# Altium footprint library RF_Filters.PcbLib: 16 footprints
Each footprint in its own frame and in the unit in brackets; x right, y up, seen from the top. Pads: shape width x height; smd on the part's side, far side on the other; paste and mask are expansions set on the pad; w line width, h text height; cw(c..) or ccw(c..) is an arc to the next point about the centre after c.
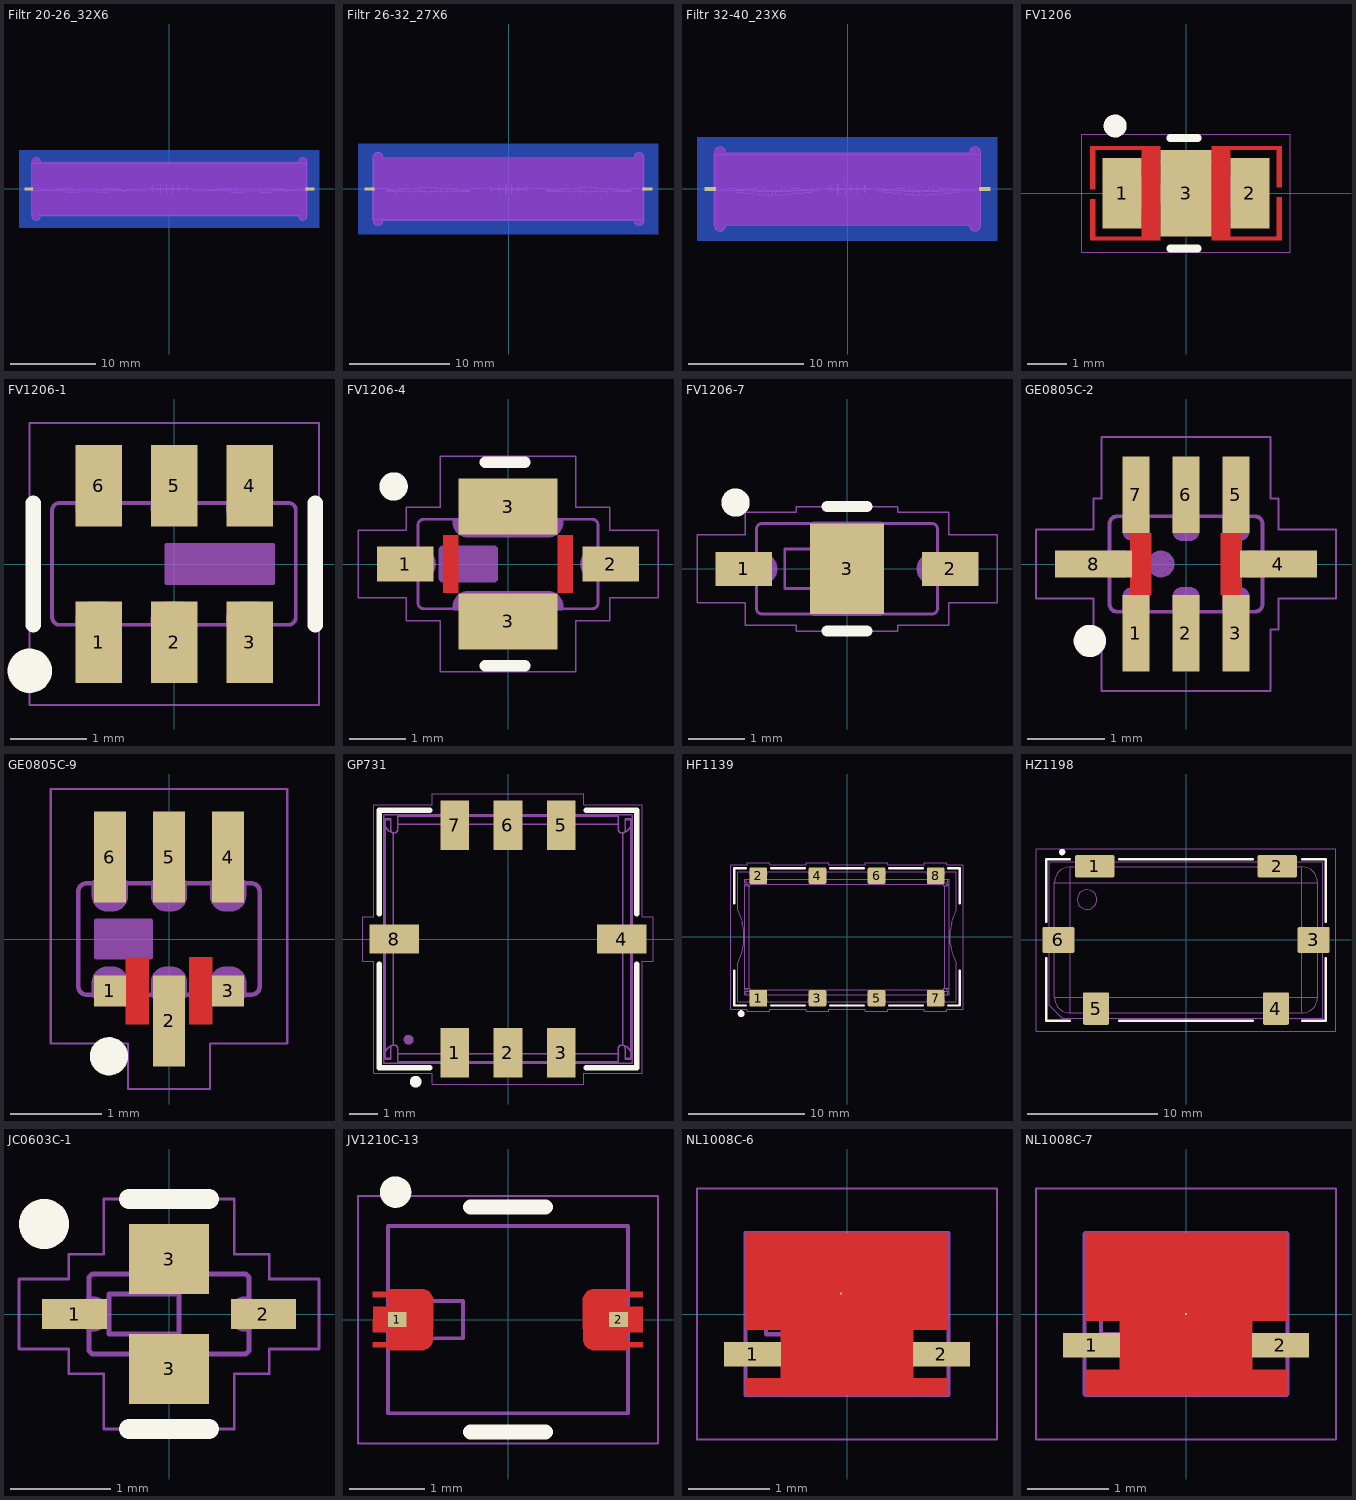
[diagram p0: the footprints below, top view; thin cyan lines are the x and y axes]

## Filtr 20-26_32X6 [mm]
pads (2):
  rect 1x0.34 smd paste-1 mask+0: 1(-16.4,0) 2(16.4,0)
Bottom Layer:
  region: -17.55,4.5 -17.55,-4.5 17.45,-4.5 17.45,4.5
Keep-Out Layer:
  board cut-out: -16.05,-3.15 -16.05,-3.249 -15.974,-3.433 -15.833,-3.574 -15.65,-3.65 -15.451,-3.65 -15.267,-3.574 -15.126,-3.433 -15.05,-3.249 -15.05,-3.15 15.05,-3.15 15.05,-3.249 15.126,-3.433 15.267,-3.574 15.451,-3.65 15.649,-3.65 15.833,-3.574 15.974,-3.433 16.05,-3.249 16.05,-3.15 16.05,3.15 16.05,3.249 15.974,3.433 15.833,3.574 15.649,3.65 15.451,3.65 15.267,3.574 15.126,3.433 15.05,3.249 15.05,3.15 -15.05,3.15 -15.05,3.249 -15.126,3.433 -15.267,3.574 -15.451,3.65 -15.649,3.65 -15.833,3.574 -15.974,3.433 -16.05,3.249 -16.05,3.15
Top Assembly:
  drawing of 217 lines, arcs and shapes, not listed
  text ".Designator" at -6.763,3.821 h3
  text "20-26" at -15.687,-2.438 h0.2
Bottom Assembly:
  lines w0.05: -16.05,-3.15 ccw(c-15.55,-3.15) -15.05,-3.15 15.05,-3.15 ccw(c15.55,-3.15) 16.05,-3.15 16.05,3.15 ccw(c15.55,3.15) 15.05,3.15 -15.05,3.15 ccw(c-15.55,3.15) -16.05,3.15 -16.05,-3.15
3D body "FILTER 20-26-1.x_t": height 0, standoff -0.52, extent -16,-3 16,3

## Filtr 26-32_27X6 [mm]
pads (2):
  rect 1x0.34 smd paste-1 mask+0: 1(-13.9,0) 2(13.9,0)
Bottom Layer:
  region: -15.05,4.5 -15.05,-4.5 14.95,-4.5 14.95,4.5
Keep-Out Layer:
  board cut-out: -13.55,-3.15 -13.55,-3.249 -13.474,-3.433 -13.333,-3.574 -13.15,-3.65 -12.951,-3.65 -12.767,-3.574 -12.626,-3.433 -12.55,-3.249 -12.55,-3.15 12.55,-3.15 12.55,-3.249 12.626,-3.433 12.767,-3.574 12.951,-3.65 13.149,-3.65 13.333,-3.574 13.474,-3.433 13.55,-3.249 13.55,-3.15 13.55,3.15 13.55,3.249 13.474,3.433 13.333,3.574 13.149,3.65 12.951,3.65 12.767,3.574 12.626,3.433 12.55,3.249 12.55,3.15 -12.55,3.15 -12.55,3.249 -12.626,3.433 -12.767,3.574 -12.951,3.65 -13.149,3.65 -13.333,3.574 -13.474,3.433 -13.55,3.249 -13.55,3.15
Top Assembly:
  drawing of 156 lines, arcs and shapes, not listed
  text ".Designator" at -6.763,3.821 h3
  text "26-32" at -12.392,-2.025 h0.2
Bottom Assembly:
  lines w0.05: -13.55,-3.15 ccw(c-13.05,-3.15) -12.55,-3.15 12.55,-3.15 ccw(c13.05,-3.15) 13.55,-3.15 13.55,3.15 ccw(c13.05,3.15) 12.55,3.15 -12.55,3.15 ccw(c-13.05,3.15) -13.55,3.15 -13.55,-3.15
3D body "FILTER 26-32-1.x_t": height 0, standoff -0.52, extent -13.5,-3 13.5,3

## Filtr 32-40_23X6 [mm]
pads (2):
  rect 1x0.34 smd paste-1 mask+0: 1(-11.9,0) 2(11.9,0)
Bottom Layer:
  region: -13.05,4.5 -13.05,-4.5 12.95,-4.5 12.95,4.5
Keep-Out Layer:
  board cut-out: -11.55,-3.15 -11.55,-3.249 -11.474,-3.433 -11.333,-3.574 -11.15,-3.65 -10.951,-3.65 -10.767,-3.574 -10.626,-3.433 -10.55,-3.249 -10.55,-3.15 10.55,-3.15 10.55,-3.249 10.626,-3.433 10.767,-3.574 10.951,-3.65 11.149,-3.65 11.333,-3.574 11.474,-3.433 11.55,-3.249 11.55,-3.15 11.55,3.15 11.55,3.249 11.474,3.433 11.333,3.574 11.149,3.65 10.951,3.65 10.767,3.574 10.626,3.433 10.55,3.249 10.55,3.15 -10.55,3.15 -10.55,3.249 -10.626,3.433 -10.767,3.574 -10.951,3.65 -11.149,3.65 -11.333,3.574 -11.474,3.433 -11.55,3.249 -11.55,3.15
Top Assembly:
  drawing of 156 lines, arcs and shapes, not listed
  text ".Designator" at -6.763,3.821 h3
  text "32-40" at -10.721,-2.338 h0.2
Bottom Assembly:
  lines w0.05: -11.55,-3.15 ccw(c-11.05,-3.15) -10.55,-3.15 10.55,-3.15 ccw(c11.05,-3.15) 11.55,-3.15 11.55,3.15 ccw(c11.05,3.15) 10.55,3.15 -10.55,3.15 ccw(c-11.05,3.15) -11.55,3.15 -11.55,-3.15
3D body "FILTER 32-40-3.x_t": height 0, standoff -0.52, extent -11.5,-3 11.509,3

## FV1206 [mm] "Mini-Circuits FV1206 Case Style"
height 0.94
pads (3):
  rect 1x1.8 smd paste-2 mask+0.08: 1(-1.625,0) 2(1.625,0)
  rect 1.3x2.2 smd paste-2: 3(0,0)
Top Layer:
  pour cut-out: -1.125,1.1 -0.65,1.1 -0.65,-1.1 -1.125,-1.1
  pour cut-out: 1.125,1.1 0.65,1.1 0.65,-1.1 1.125,-1.1
  pour cut-out: -0.65,1.1 -2.43,1.1 -2.43,1.2 -0.65,1.2
  pour cut-out: -0.65,-1.1 -2.43,-1.1 -2.43,-1.2 -0.65,-1.2
  pour cut-out: -2.43,-1.2 -2.3,-1.2 -2.3,-0.15 -2.43,-0.15
  pour cut-out: 0.65,1.1 2.43,1.1 2.43,1.2 0.65,1.2
  pour cut-out: 2.43,1.2 2.3,1.2 2.3,0.15 2.43,0.15
  pour cut-out: 0.65,-1.1 2.43,-1.1 2.43,-1.2 0.65,-1.2
  pour cut-out: 2.43,-1.2 2.3,-1.2 2.3,-0.1 2.43,-0.1
  pour cut-out: -2.43,1.2 -2.3,1.2 -2.3,0.1 -2.43,0.1
Top Overlay:
  circle w0.3: c-1.8,1.71 r0.141
  lines w0.2: -0.4,-1.4 0.3,-1.4 ; -0.4,1.4 0.3,1.4
Top Paste:
  rectangle: -0.55,0.3 0.55,1
  rectangle: -0.55,-1 0.55,-0.3
  region: -1.325,0.1 -1.325,0.775 -1.925,0.775 -1.925,0.1
  region: -1.325,-0.775 -1.325,-0.1 -1.925,-0.1 -1.925,-0.775
  region: 1.925,0.1 1.925,0.775 1.325,0.775 1.325,0.1
  region: 1.925,-0.775 1.925,-0.1 1.325,-0.1 1.325,-0.775
Top Courtyard:
  lines w0.025: -2.65,-1.5 2.65,-1.5 2.65,1.5 -2.65,1.5 -2.65,-1.5
Top Assembly:
  lines w0.05: -1.55,-0.775 -1.55,0.775 ; -1.45,-0.8 -1.45,0.8 ; -1.4,-0.8 -1.4,0.8 ; -1.35,-0.775 -1.35,0.775 ; -1.348,-0.798 ccw(c-2.451,0) -1.349,0.798 ; -1.308,-0.799 -0.405,-0.799 ; -1.308,0.799 -0.405,0.799 ; -1.3,-0.7 -1.3,0.72 ; -1.25,-0.8 -1.5,-0.8 ; -1.25,-0.625 -1.25,0.622 ; -1.25,0.8 -1.5,0.8 ; -1.2,-0.525 -1.2,0.529 ; -1.15,-0.375 -1.15,0.391 ; -1.1,-0.132 -1.1,0.157 ; -0.84,-0.25 -0.84,0.25 ; -0.79,-0.25 -0.79,0.25 ; -0.74,-0.25 -0.74,0.25 ; -0.69,-0.25 -0.69,0.25 ; -0.64,-0.25 -0.64,0.25 ; -0.59,-0.25 -0.59,0.25 ; -0.54,-0.25 -0.54,0.25 ; -0.49,-0.25 -0.49,0.25 ; -0.44,-0.25 -0.44,0.25 ; -0.405,-0.8 0.405,-0.8 ; -0.405,0.8 0.405,0.8 ; -0.403,-0.747 cw(c0,-1.099) 0.403,-0.747 ; -0.403,0.747 ccw(c0,1.099) 0.403,0.747 ; -0.401,-0.8 -0.401,-0.749 ; -0.401,0.749 -0.401,0.8 ; -0.39,-0.25 -0.39,0.25 ; -0.35,-0.8 -0.35,-0.7 ; -0.35,0.7 -0.35,0.8 ; -0.34,-0.25 -0.34,0.25 ; -0.3,-0.8 -0.3,-0.66 ; -0.3,0.66 -0.3,0.8 ; -0.29,-0.25 -0.29,0.25 ; -0.25,-0.8 -0.25,-0.63 ; -0.25,0.63 -0.25,0.8 ; -0.24,-0.25 -0.24,0.25 ; -0.2,-0.8 -0.2,-0.61 ; -0.2,0.61 -0.2,0.8 ; -0.19,-0.25 -0.19,0.25 ; -0.15,-0.8 -0.15,-0.59 ; -0.15,0.59 -0.15,0.8 ; -0.14,-0.25 -0.14,0.25 ; -0.1,-0.8 -0.1,-0.58 ; -0.1,0.58 -0.1,0.8 ; -0.09,-0.25 -0.09,0.25 ; -0.05,-0.8 -0.05,-0.57 ; -0.05,0.57 -0.05,0.8 ; -0.04,-0.25 -0.04,0.25 ; 0,-0.8 0,-0.57 ; 0,0.57 0,0.8 ; 0.01,-0.25 0.01,0.25 ; 0.05,-0.8 0.05,-0.57 ; 0.05,0.57 0.05,0.8 ; 0.06,-0.25 0.06,0.25 ; 0.1,-0.8 0.1,-0.58 ; 0.1,0.58 0.1,0.8 ; 0.11,-0.25 0.11,0.25 ; 0.15,-0.8 0.15,-0.59 ; 0.15,0.59 0.15,0.8 ; 0.16,-0.25 0.16,0.25 ; 0.2,-0.8 0.2,-0.61 ; 0.2,0.61 0.2,0.8 ; 0.21,-0.25 0.21,0.25 ; 0.25,-0.8 0.25,-0.63 ; 0.25,0.63 0.25,0.8 ; 0.26,-0.25 0.26,0.25 ; 0.3,-0.8 0.3,-0.66 ; 0.3,0.66 0.3,0.8 ; 0.31,-0.25 0.31,0.25 ; 0.35,-0.8 0.35,-0.7 ; 0.35,0.7 0.35,0.8 ; 0.36,-0.25 0.36,0.25 ; 0.401,-0.8 0.401,-0.749 ; 0.401,0.749 0.401,0.8 ; 0.405,-0.799 1.308,-0.799 ; 0.405,0.799 1.308,0.799 ; 1.1,-0.132 1.1,0.157 ; 1.15,-0.375 1.15,0.391 ; 1.2,-0.525 1.2,0.529 ; 1.25,-0.8 1.5,-0.8 ; 1.25,-0.625 1.25,0.622 ; 1.25,0.8 1.5,0.8 ; 1.3,-0.7 1.3,0.72 ; 1.348,-0.798 cw(c2.451,0) 1.349,0.798 ; 1.35,-0.775 1.35,0.775 ; 1.4,-0.8 1.4,0.8 ; 1.45,-0.8 1.45,0.8 ; 1.55,-0.775 1.55,0.775 ; -1.5,-0.8 cw(c-1.5,-0.7) -1.6,-0.7 -1.6,0.7 cw(c-1.5,0.7) -1.5,0.8 ; -1.5,-0.8 -1.5,0.8 ; 1.5,-0.8 ccw(c1.5,-0.7) 1.6,-0.7 1.6,0.7 ccw(c1.5,0.7) 1.5,0.8 ; 1.5,-0.8 1.5,0.8 ; -0.89,-0.25 0.41,-0.25 0.41,0.25 -0.89,0.25 -0.89,-0.25
  text ".Designator" at -2.704,1.129 h1.2
3D body "FV1206.x_t": height 0.94, standoff 0, extent -1.6,-0.8 1.6,0.8

## FV1206-1 [mm] "Mini-Circuits FV1206-1 Case Style"
height 0.89
pads (6):
  rect 0.61x1.07 smd mask+0.05: 1(-0.99,-1.025) 2(0,-1.025) 3(0.99,-1.025) 4(0.99,1.025) 5(0,1.025) 6(-0.99,1.025)
Top Overlay:
  circle w0.3: c-1.896,-1.401 r0.141
  lines w0.2: -1.85,-0.8 -1.85,0.8 ; 1.85,-0.8 1.85,0.8
Top Courtyard:
  lines w0.025: -1.9,-1.85 1.9,-1.85 1.9,1.85 -1.9,1.85 -1.9,-1.85
Top Assembly:
  drawing of 201 lines, arcs and shapes, not listed
  text ".Designator" at -2.704,1.129 h1.2
3D body "FV1206-1.x_t": height 0.9, standoff -0.01, extent -1.6,-0.81 1.6,0.81

## FV1206-4 [mm] "Mini-Circuits FV1206-4 Case Style"
height 0.94
pads (4):
  rect 0.99x0.61 smd: 1(-1.815,0) 2(1.815,0)
  rect 1.75x0.99 smd paste-2: 3(0,-1.015) 3(0,1.015)
Top Layer:
  pour cut-out: -0.875,0.505 -0.875,-0.005 -1.14,-0.005 -1.14,0.505
  pour cut-out: -0.875,-0.505 -0.875,0.005 -1.14,0.005 -1.14,-0.505
  pour cut-out: 0.875,0.505 0.875,-0.005 1.14,-0.005 1.14,0.505
  pour cut-out: 0.875,-0.505 0.875,0.005 1.14,0.005 1.14,-0.505
Top Overlay:
  circle w0.3: c-2.02,1.37 r0.1
  lines w0.2: -0.4,-1.8 0.3,-1.8 ; -0.4,1.8 0.3,1.8
Top Paste:
  region: -0.1,1.325 -0.775,1.325 -0.775,0.625 -0.1,0.625
  rectangle: 0.1,0.625 0.775,1.325
  region: -0.1,-0.625 -0.775,-0.625 -0.775,-1.325 -0.1,-1.325
  rectangle: 0.1,-1.325 0.775,-0.625
Top Courtyard:
  lines w0.025: -2.65,-0.6 -1.8,-0.6 -1.8,-1 -1.2,-1 -1.2,-1.9 1.2,-1.9 1.2,-1 1.8,-1 1.8,-0.6 2.65,-0.6 2.65,0.6 1.8,0.6 1.8,1 1.2,1 1.2,1.9 -1.2,1.9 -1.2,1 -1.8,1 -1.8,0.6 -2.65,0.6 -2.65,-0.6
Top Assembly:
  drawing of 347 lines, arcs and shapes, not listed
  text ".Designator" at -2.704,1.129 h1.2
3D body "FV1206-4.x_t": height 0.94, standoff 0, extent -1.6,-0.8 1.6,0.8

## FV1206-7 [mm] "Mini-Circuits FV1206-7 Case Style"
height 1.3
pads (3):
  rect 1x0.6 smd: 1(-1.825,0) 2(1.825,0)
  rect 1.3x1.6 smd paste-2: 3(0,0)
Top Overlay:
  circle w0.3: c-1.97,1.17 r0.1
  lines w0.2: -0.35,-1.1 0.35,-1.1 ; -0.35,1.1 0.35,1.1
Top Paste:
  region: -0.15,-0.15 -0.65,-0.15 -0.65,-0.8 -0.15,-0.8
  region: -0.15,0.8 -0.65,0.8 -0.65,0.15 -0.15,0.15
  region: 0.65,-0.15 0.15,-0.15 0.15,-0.8 0.65,-0.8
  region: 0.65,0.8 0.15,0.8 0.15,0.15 0.65,0.15
Top Courtyard:
  lines w0.025: -2.65,-0.6 -2.65,0.6 -1.8,0.6 -1.8,1 -0.9,1 -0.9,1.1 0.9,1.1 0.9,1 1.8,1 1.8,0.6 2.65,0.6 2.65,-0.6 1.8,-0.6 1.8,-1 0.9,-1 0.9,-1.1 -0.9,-1.1 -0.9,-1 -1.8,-1 -1.8,-0.6 -2.65,-0.6
Top Assembly:
  lines w0.05: -1.6,-0.25 -1.6,-0.7 ccw(c-1.5,-0.7) -1.5,-0.8 1.5,-0.8 ccw(c1.5,-0.7) 1.6,-0.7 1.6,-0.25 ; -1.6,0.25 -1.6,0.7 cw(c-1.5,0.7) -1.5,0.8 1.5,0.8 cw(c1.5,0.7) 1.6,0.7 1.6,0.25 ; -1.56,-0.25 -1.56,0.25 ; -1.51,-0.25 -1.51,0.25 ; -1.46,-0.225 -1.46,0.225 ; -1.41,-0.225 -1.41,0.225 ; -1.36,-0.2 -1.36,0.2 ; -1.31,-0.15 -1.31,0.15 ; -1.26,-0.05 -1.26,0.05 ; -0.6,-0.81 0.6,-0.81 ; -0.6,0.81 0.6,0.81 ; 1.26,-0.05 1.26,0.05 ; 1.31,-0.15 1.31,0.15 ; 1.36,-0.2 1.36,0.2 ; 1.41,-0.225 1.41,0.225 ; 1.46,-0.225 1.46,0.225 ; 1.51,-0.25 1.51,0.25 ; 1.56,-0.25 1.56,0.25 ; -1.61,-0.25 -1.61,0.25 -1.5,0.25 cw(c-1.5,0) -1.5,-0.25 -1.61,-0.25 ; -1.1,-0.35 0.2,-0.35 0.2,0.35 -1.1,0.35 -1.1,-0.35 ; 1.5,-0.25 cw(c1.5,0) 1.5,0.25 1.61,0.25 1.61,-0.25 1.5,-0.25
  text ".Designator" at -2.704,1.129 h1.2
3D body "FV1206-7.x_t": height 1.31, standoff -0.01, extent -1.61,-0.81 1.61,0.81

## GE0805C-2 [mm] "Mini-Circuits GE0805C-2 Case Style"
height 0.95
pads (8):
  rect 0.35x1 smd mask+0.06: 1(-0.65,-0.9) 2(0,-0.9) 3(0.65,-0.9) 5(0.65,0.9) 6(0,0.9) 7(-0.65,0.9)
  rect 1x0.35 smd mask+0.06: 4(1.2,0) 8(-1.2,0)
Top Layer:
  pour cut-out: 0.725,0.4 0.45,0.4 0.45,-0.4 0.725,-0.4
  pour cut-out: -0.725,0.4 -0.45,0.4 -0.45,-0.4 -0.725,-0.4
Top Overlay:
  circle w0.22: c-1.25,-1 r0.1
Top Courtyard:
  lines w0.025: -1.95,-0.45 -1.95,0.45 -1.2,0.45 -1.2,0.85 -1.1,0.85 -1.1,1.65 1.1,1.65 1.1,0.85 1.2,0.85 1.2,0.45 1.95,0.45 1.95,-0.45 1.2,-0.45 1.2,-0.85 1.1,-0.85 1.1,-1.65 -1.1,-1.65 -1.1,-0.85 -1.2,-0.85 -1.2,-0.45 -1.95,-0.45
Top Assembly:
  circle w0.05: c-0.325,0 r0.01
  circle w0.05: c-0.325,0 r0.15
  circle w0.05: c-0.325,0 r0.05
  circle w0.05: c-0.325,0 r0.1
  lines w0.05: -0.995,-0.15 -0.995,-0.52 ccw(c-0.895,-0.52) -0.895,-0.62 -0.8,-0.62 ; -0.995,0.15 -0.995,0.52 cw(c-0.895,0.52) -0.895,0.62 -0.8,0.62 ; -0.95,-0.15 -0.95,0.15 ; -0.9,-0.15 -0.9,0.15 ; -0.85,-0.15 -0.85,0.15 ; -0.8,-0.575 -0.5,-0.575 ; -0.8,-0.525 -0.5,-0.525 ; -0.8,-0.475 -0.5,-0.475 ; -0.8,0.475 -0.5,0.475 ; -0.8,0.525 -0.5,0.525 ; -0.8,0.575 -0.5,0.575 ; -0.775,-0.375 -0.525,-0.375 ; -0.775,0.375 -0.525,0.375 ; -0.75,-0.1 -0.75,0.1 ; -0.5,-0.62 -0.15,-0.62 ; -0.5,0.62 -0.15,0.62 ; -0.15,-0.575 0.15,-0.575 ; -0.15,-0.525 0.15,-0.525 ; -0.15,-0.475 0.15,-0.475 ; -0.15,0.475 0.15,0.475 ; -0.15,0.525 0.15,0.525 ; -0.15,0.575 0.15,0.575 ; -0.125,-0.375 0.125,-0.375 ; -0.125,0.375 0.125,0.375 ; 0.15,-0.62 0.5,-0.62 ; 0.15,0.62 0.5,0.62 ; 0.5,-0.575 0.8,-0.575 ; 0.5,-0.525 0.8,-0.525 ; 0.5,-0.475 0.8,-0.475 ; 0.5,0.475 0.8,0.475 ; 0.5,0.525 0.8,0.525 ; 0.5,0.575 0.8,0.575 ; 0.525,-0.375 0.775,-0.375 ; 0.525,0.375 0.775,0.375 ; 0.75,-0.1 0.75,0.1 ; 0.8,-0.62 0.895,-0.62 ccw(c0.895,-0.52) 0.995,-0.52 0.995,-0.15 ; 0.8,0.62 0.895,0.62 cw(c0.895,0.52) 0.995,0.52 0.995,0.15 ; 0.85,-0.15 0.85,0.15 ; 0.9,-0.15 0.9,0.15 ; 0.95,-0.15 0.95,0.15 ; -0.8,-0.425 cw(c-0.7,-0.425) -0.7,-0.325 -0.6,-0.325 cw(c-0.6,-0.425) -0.5,-0.425 ; -0.8,-0.425 -0.8,-0.625 -0.5,-0.625 -0.5,-0.425 ; -0.8,-0.425 -0.5,-0.425 ; -0.8,-0.15 ccw(c-0.8,-0.05) -0.7,-0.05 -0.7,0.05 ccw(c-0.8,0.05) -0.8,0.15 ; -0.8,-0.15 -1,-0.15 -1,0.15 -0.8,0.15 ; -0.8,-0.15 -0.8,0.15 ; -0.8,0.425 ccw(c-0.7,0.425) -0.7,0.325 -0.6,0.325 ccw(c-0.6,0.425) -0.5,0.425 ; -0.8,0.425 -0.8,0.625 -0.5,0.625 -0.5,0.425 ; -0.8,0.425 -0.5,0.425 ; -0.15,-0.425 cw(c-0.05,-0.425) -0.05,-0.325 0.05,-0.325 cw(c0.05,-0.425) 0.15,-0.425 ; -0.15,-0.425 -0.15,-0.625 0.15,-0.625 0.15,-0.425 ; -0.15,-0.425 0.15,-0.425 ; -0.15,0.425 ccw(c-0.05,0.425) -0.05,0.325 0.05,0.325 ccw(c0.05,0.425) 0.15,0.425 ; -0.15,0.425 -0.15,0.625 0.15,0.625 0.15,0.425 ; -0.15,0.425 0.15,0.425 ; 0.5,-0.425 cw(c0.6,-0.425) 0.6,-0.325 0.7,-0.325 cw(c0.7,-0.425) 0.8,-0.425 ; 0.5,-0.425 0.5,-0.625 0.8,-0.625 0.8,-0.425 ; 0.5,-0.425 0.8,-0.425 ; 0.5,0.425 ccw(c0.6,0.425) 0.6,0.325 0.7,0.325 ccw(c0.7,0.425) 0.8,0.425 ; 0.5,0.425 0.5,0.625 0.8,0.625 0.8,0.425 ; 0.5,0.425 0.8,0.425 ; 0.8,-0.15 cw(c0.8,-0.05) 0.7,-0.05 0.7,0.05 cw(c0.8,0.05) 0.8,0.15 ; 0.8,-0.15 1,-0.15 1,0.15 0.8,0.15 ; 0.8,-0.15 0.8,0.15
  text ".Designator" at -2.704,1.229 h1.2
3D body "GE0805C-2.x_t": height 0.95, standoff 0, extent -1,-0.625 1,0.625

## GE0805C-9 [mm] "Mini-Circuits GE0805C-9 Case Style"
height 0.95
pads (6):
  rect 0.35x0.34 smd mask+0.065: 1(-0.65,-0.57) 3(0.65,-0.57)
  rect 0.35x1 smd mask+0.06: 2(0,-0.9) 4(0.65,0.9) 5(0,0.9) 6(-0.65,0.9)
Top Layer:
  pour cut-out: -0.475,-0.2 -0.22,-0.2 -0.22,-0.94 -0.475,-0.94
  pour cut-out: 0.475,-0.2 0.22,-0.2 0.22,-0.94 0.475,-0.94
Top Overlay:
  circle w0.22: c-0.66,-1.29 r0.1
Top Solder:
  rectangle: -1.09,-0.805 -0.89,-0.335
  region: 1.09,-0.335 0.89,-0.335 0.89,-0.805 1.09,-0.805
Top Courtyard:
  lines w0.025: -1.3,-1.15 -1.3,-0.8 -1.3,1.65 1.3,1.65 1.3,-1.15 0.45,-1.15 0.45,-1.65 -0.45,-1.65 -0.45,-1.15 -1.3,-1.15
Top Assembly:
  lines w0.05: -0.825,-0.615 -0.9,-0.615 cw(c-0.9,-0.515) -1,-0.515 -1,0.515 cw(c-0.9,0.515) -0.9,0.615 -0.825,0.615 ; -0.825,-0.575 -0.475,-0.575 ; -0.825,-0.525 -0.475,-0.525 ; -0.825,0.525 -0.475,0.525 ; -0.825,0.575 -0.475,0.575 ; -0.805,-0.425 -0.495,-0.425 ; -0.805,0.425 -0.495,0.425 ; -0.775,-0.375 -0.525,-0.375 ; -0.775,0.375 -0.525,0.375 ; -0.75,-0.2 -0.75,0.2 ; -0.7,-0.2 -0.7,0.2 ; -0.65,-0.2 -0.65,0.2 ; -0.6,-0.2 -0.6,0.2 ; -0.55,-0.2 -0.55,0.2 ; -0.5,-0.2 -0.5,0.2 ; -0.475,-0.615 -0.175,-0.615 ; -0.475,0.615 -0.175,0.615 ; -0.45,-0.2 -0.45,0.2 ; -0.4,-0.2 -0.4,0.2 ; -0.35,-0.2 -0.35,0.2 ; -0.3,-0.2 -0.3,0.2 ; -0.25,-0.2 -0.25,0.2 ; -0.175,-0.575 0.175,-0.575 ; -0.175,-0.525 0.175,-0.525 ; -0.175,0.525 0.175,0.525 ; -0.175,0.575 0.175,0.575 ; -0.155,-0.425 0.155,-0.425 ; -0.155,0.425 0.155,0.425 ; -0.125,-0.375 0.125,-0.375 ; -0.125,0.375 0.125,0.375 ; 0.175,-0.615 0.475,-0.615 ; 0.175,0.615 0.475,0.615 ; 0.475,-0.575 0.825,-0.575 ; 0.475,-0.525 0.825,-0.525 ; 0.475,0.525 0.825,0.525 ; 0.475,0.575 0.825,0.575 ; 0.495,-0.425 0.805,-0.425 ; 0.495,0.425 0.805,0.425 ; 0.525,-0.375 0.775,-0.375 ; 0.525,0.375 0.775,0.375 ; 0.825,-0.615 0.9,-0.615 ccw(c0.9,-0.515) 1,-0.515 1,0.515 ccw(c0.9,0.515) 0.9,0.615 0.825,0.615 ; -0.825,-0.475 cw(c-0.675,-0.475) -0.675,-0.325 -0.625,-0.325 cw(c-0.625,-0.475) -0.475,-0.475 ; -0.825,-0.475 -0.825,-0.625 -0.475,-0.625 -0.475,-0.475 ; -0.825,-0.475 -0.475,-0.475 ; -0.825,0.475 ccw(c-0.675,0.475) -0.675,0.325 -0.625,0.325 ccw(c-0.625,0.475) -0.475,0.475 ; -0.825,0.475 -0.825,0.625 -0.475,0.625 -0.475,0.475 ; -0.825,0.475 -0.475,0.475 ; -0.175,-0.475 cw(c-0.025,-0.475) -0.025,-0.325 0.025,-0.325 cw(c0.025,-0.475) 0.175,-0.475 ; -0.175,-0.475 -0.175,-0.625 0.175,-0.625 0.175,-0.475 ; -0.175,-0.475 0.175,-0.475 ; -0.175,0.475 ccw(c-0.025,0.475) -0.025,0.325 0.025,0.325 ccw(c0.025,0.475) 0.175,0.475 ; -0.175,0.475 -0.175,0.625 0.175,0.625 0.175,0.475 ; -0.175,0.475 0.175,0.475 ; 0.475,-0.475 cw(c0.625,-0.475) 0.625,-0.325 0.675,-0.325 cw(c0.675,-0.475) 0.825,-0.475 ; 0.475,-0.475 0.475,-0.625 0.825,-0.625 0.825,-0.475 ; 0.475,-0.475 0.825,-0.475 ; 0.475,0.475 ccw(c0.625,0.475) 0.625,0.325 0.675,0.325 ccw(c0.675,0.475) 0.825,0.475 ; 0.475,0.475 0.475,0.625 0.825,0.625 0.825,0.475 ; 0.475,0.475 0.825,0.475 ; -0.8,-0.2 -0.2,-0.2 -0.2,0.2 -0.8,0.2 -0.8,-0.2
  text ".Designator" at -2.704,0.979 h1.2
3D body "GE0805C-9.x_t": height 0.95, standoff 0, extent -1,-0.625 1,0.625

## GP731 [mm] "Mini-Circuits GP731 Case Style"
height 2.54
pads (8):
  rect 1.02x1.78 smd mask+0.06: 1(-1.91,-4.065) 2(0,-4.065) 3(1.91,-4.065) 5(1.91,4.065) 6(0,4.065) 7(-1.91,4.065)
  rect 1.78x1.02 smd mask+0.06: 4(4.065,0) 8(-4.065,0)
Top Overlay:
  circle w0.22: c-3.3,-5.1 r0.1
  lines w0.2: -4.6,-0.9 -4.6,-4.6 -2.8,-4.6 ; -4.6,0.9 -4.6,4.6 -2.8,4.6 ; 2.8,-4.6 4.6,-4.6 4.6,-0.9 ; 2.8,4.6 4.6,4.6 4.6,0.9
Top Courtyard:
  lines w0.025: -5.2,-0.8 -4.8,-0.8 -4.8,-4.8 -2.7,-4.8 -2.7,-5.2 2.7,-5.2 2.7,-4.8 4.8,-4.8 4.8,-0.8 5.2,-0.8 5.2,0.8 4.8,0.8 4.8,4.8 2.7,4.8 2.7,5.2 -2.7,5.2 -2.7,4.8 -4.8,4.8 -4.8,0.8 -5.2,0.8 -5.2,-0.8
Top Assembly:
  circle w0.05: c-3.55,-3.6 r0.1
  circle w0.05: c-3.55,-3.6 r0.05
  circle w0.05: c-3.55,-3.6 r0.15
  circle w0.05: c-3.55,-3.6 r0.01
  lines w0.05: -4.395,-4.257 -4.195,-4.257 ; -4.395,-4.17 cw(c-4.049,-4.139) -4.095,-3.795 ; -4.395,-0.47 -4.445,-0.505 -4.445,-4.445 -2.42,-4.445 cw(c-1.91,-4.761) -2.385,-4.395 ; -4.395,0.48 -4.445,0.515 -4.445,4.445 -2.42,4.445 ccw(c-1.91,4.761) -2.385,4.395 ; -4.395,4.17 ccw(c-4.057,4.133) -4.095,3.795 ; -4.395,4.257 -4.195,4.257 ; -3.945,-4.095 3.945,-4.095 ; -3.945,4.095 3.945,4.095 ; -1.435,-4.395 cw(c-1.91,-4.761) -1.4,-4.445 -0.51,-4.445 -0.475,-4.395 ; -1.435,4.395 ccw(c-1.91,4.761) -1.4,4.445 -0.51,4.445 -0.475,4.395 ; -0.635,-4.445 -0.635,-4.395 ; -0.635,4.395 -0.635,4.445 ; 0.475,-4.395 0.51,-4.445 1.4,-4.445 cw(c1.91,-4.761) 1.435,-4.395 ; 0.475,4.395 0.51,4.445 1.4,4.445 ccw(c1.91,4.761) 1.435,4.395 ; 0.635,-4.445 0.635,-4.395 ; 0.635,4.395 0.635,4.445 ; 2.385,-4.395 cw(c1.91,-4.761) 2.42,-4.445 4.445,-4.445 4.445,-0.505 4.395,-0.47 ; 2.385,4.395 ccw(c1.91,4.761) 2.42,4.445 4.445,4.445 4.445,0.515 4.395,0.48 ; 4.195,-4.257 4.395,-4.257 ; 4.195,4.257 4.395,4.257 ; 4.395,-4.17 ccw(c4.057,-4.133) 4.095,-3.795 ; 4.395,4.17 cw(c4.049,4.139) 4.095,3.795 ; -4.095,-3.795 ccw(c-4.095,-3.895) -4.195,-3.895 -4.195,-4.295 -4.395,-4.295 -4.395,4.295 -4.195,4.295 -4.195,3.895 ccw(c-4.095,3.895) -4.095,3.795 ; -4.095,-3.795 -4.045,-3.795 cw(c-4.045,-3.895) -3.945,-3.895 -3.945,-4.395 3.945,-4.395 3.945,-3.895 cw(c4.045,-3.895) 4.045,-3.795 4.095,-3.795 ; -4.095,-3.795 -4.095,3.795 ; -4.095,3.795 -4.045,3.795 ccw(c-4.045,3.895) -3.945,3.895 -3.945,4.395 3.945,4.395 3.945,3.895 ccw(c4.045,3.895) 4.045,3.795 4.095,3.795 ; 4.095,-3.795 cw(c4.095,-3.895) 4.195,-3.895 4.195,-4.295 4.395,-4.295 4.395,4.295 4.195,4.295 4.195,3.895 cw(c4.095,3.895) 4.095,3.795 ; 4.095,-3.795 4.095,3.795
  text ".Designator" at -3.378,-0.339 h1.5
3D body "GP731.x_t": height 2.56, standoff 0, extent -4.445,-4.445 4.445,4.445

## HF1139 [mm] "Minicircuits HF1139 case style"
height 6.86
pads (8):
  rect 1.52x1.4 smd mask+0.05: 1(-7.62,-5.27)
  rrect15% 1.52x1.4 smd mask+0.05: 2(-7.62,5.27) 3(-2.54,-5.27) 4(-2.54,5.27) 5(2.54,-5.27) 6(2.54,5.27) 7(7.62,-5.27) 8(7.62,5.27)
Top Overlay:
  circle w0.3: c-9.1,-6.6 r0.15
  lines w0.2: -9.7,-2.9 -9.7,-5.9 -8.7,-5.9 ; -9.7,2.9 -9.7,5.9 -8.7,5.9 ; -6.54,-5.9 -3.62,-5.9 ; -6.54,5.9 -3.62,5.9 ; -1.46,-5.9 1.46,-5.9 ; -1.46,5.9 1.46,5.9 ; 3.62,-5.9 6.54,-5.9 ; 3.62,5.9 6.54,5.9 ; 8.7,-5.9 9.7,-5.9 9.7,-2.9 ; 8.7,5.9 9.7,5.9 9.7,2.9
Top Courtyard:
  lines w0.025: -10,-6.2 -10,6.2 -8.6,6.2 -8.6,6.4 -6.64,6.4 -6.64,6.2 -3.52,6.2 -3.52,6.4 -1.56,6.4 -1.56,6.2 1.56,6.2 1.56,6.4 3.52,6.4 3.52,6.2 6.64,6.2 6.64,6.4 8.6,6.4 8.6,6.2 10,6.2 10,-6.2 8.6,-6.2 8.6,-6.4 6.64,-6.4 6.64,-6.2 3.52,-6.2 3.52,-6.4 1.56,-6.4 1.56,-6.2 -1.56,-6.2 -1.56,-6.4 -3.52,-6.4 -3.52,-6.2 -6.64,-6.2 -6.64,-6.4 -8.6,-6.4 -8.6,-6.2 -10,-6.2
Top Assembly:
  lines w0.05: -8.8,-4.4 -8.3,-4.4 -8.3,-4.95 ; -8.8,4.4 -8.3,4.4 -8.3,4.95 ; -8.65,-4.95 -8.65,-4.65 ; -8.65,4.65 -8.65,4.95 ; -8.5,-4.4 -8.5,-4.45 -8.6,-4.55 -8.8,-4.55 -8.8,4.55 -8.6,4.55 -8.5,4.45 -8.5,4.4 ; -8.405,-5.59 cw(c-7.62,-5.59) -8.075,-4.95 ; -8.405,5.59 ccw(c-7.62,5.59) -8.075,4.95 ; -8.4,-4.4 -8.4,4.4 ; -8.3,-4.65 -8.8,-4.65 -8.8,-4.95 8.8,-4.95 8.8,-4.65 8.3,-4.65 ; -8.3,-4.55 8.3,-4.55 ; -8.3,4.55 8.3,4.55 ; -8.3,4.65 -8.8,4.65 -8.8,4.95 8.8,4.95 8.8,4.65 8.3,4.65 ; -7.165,-4.95 cw(c-7.62,-5.59) -6.835,-5.59 ; -7.165,4.95 ccw(c-7.62,5.59) -6.835,5.59 ; -3.325,-5.59 cw(c-2.54,-5.59) -2.995,-4.95 ; -3.325,5.59 ccw(c-2.54,5.59) -2.995,4.95 ; -2.085,-4.95 cw(c-2.54,-5.59) -1.755,-5.59 ; -2.085,4.95 ccw(c-2.54,5.59) -1.755,5.59 ; 1.755,-5.59 cw(c2.54,-5.59) 2.085,-4.95 ; 1.755,5.59 ccw(c2.54,5.59) 2.085,4.95 ; 2.995,-4.95 cw(c2.54,-5.59) 3.325,-5.59 ; 2.995,4.95 ccw(c2.54,5.59) 3.325,5.59 ; 6.835,-5.59 cw(c7.62,-5.59) 7.165,-4.95 ; 6.835,5.59 ccw(c7.62,5.59) 7.165,4.95 ; 8.075,-4.95 cw(c7.62,-5.59) 8.405,-5.59 ; 8.075,4.95 ccw(c7.62,5.59) 8.405,5.59 ; 8.3,-4.95 8.3,-4.4 8.8,-4.4 ; 8.3,4.95 8.3,4.4 8.8,4.4 ; 8.4,-4.4 8.4,4.4 ; 8.5,-4.4 8.5,-4.45 8.6,-4.55 8.8,-4.55 8.8,4.55 8.6,4.55 8.5,4.45 8.5,4.4 ; 8.65,-4.95 8.65,-4.65 ; 8.65,4.65 8.65,4.95 ; -9.4,-5.59 -8.255,-5.59 cw(c-7.62,-5.59) -6.985,-5.59 -3.175,-5.59 cw(c-2.54,-5.59) -1.905,-5.59 1.905,-5.59 cw(c2.54,-5.59) 3.175,-5.59 6.985,-5.59 cw(c7.62,-5.59) 8.255,-5.59 9.4,-5.59 9.4,-2.3 9.021,-1.258 cw(c10.9,-0.574) 8.9,-0.574 8.9,0.574 cw(c10.9,0.574) 9.021,1.258 9.4,2.3 9.4,5.59 8.255,5.59 cw(c7.62,5.59) 6.985,5.59 3.175,5.59 cw(c2.54,5.59) 1.905,5.59 -1.905,5.59 cw(c-2.54,5.59) -3.175,5.59 -6.985,5.59 cw(c-7.62,5.59) -8.255,5.59 -9.4,5.59 -9.4,2.3 -9.021,1.258 cw(c-10.9,0.574) -8.9,0.574 -8.9,-0.574 cw(c-10.9,-0.574) -9.021,-1.258 -9.4,-2.3 -9.4,-5.59
  text ".Designator" at -6.763,-0.679 h3
3D body "HF1139.x_t": height 6.88, standoff 0, extent -9.4,-5.59 9.4,5.59

## HZ1198 [mm] "Mini-Circuits CASE STYLE: HZ1198"
height 1.15
pads (6):
  rrect10% 3x1.7 smd: 1(-7,5.65) 2(7,5.65)
  rrect10% 2.44x1.98 smd: 3(9.78,0) 6(-9.78,0)
  rrect10% 1.98x2.49 smd: 4(6.895,-5.255) 5(-6.895,-5.255)
Top Overlay:
  circle w0.25: c-9.493,6.739 r0.125
  lines w0.2: -10.7,-1.4 -10.7,-6.2 -8.9,-6.2 ; -10.7,1.4 -10.7,6.2 -8.9,6.2 ; -5.1,-6.2 5.1,-6.2 ; -5.1,6.2 5.1,6.2 ; 8.9,-6.2 10.7,-6.2 10.7,-1.4 ; 8.9,6.2 10.7,6.2 10.7,1.4
Top Courtyard:
  lines w0.025: -11.5,-7 -11.5,7 11.5,7 11.5,-7 -11.5,-7
Top Assembly:
  circle w0.05: c-7.59,3.095 r0.75
  lines w0.05: -10.09,-0.295 cw(c-10.49,0.005) -10.49,-0.495 -10.49,-4.995 -9.49,-5.995 -7.395,-5.995 cw(c-6.895,-5.995) -7.195,-5.595 ; -10.09,0.305 ccw(c-10.49,0.005) -10.49,0.505 -10.49,5.995 -7.5,5.995 ccw(c-7,5.995) -7.3,5.595 ; -6.7,5.595 ccw(c-7,5.995) -6.5,5.995 6.5,5.995 ccw(c7,5.995) 6.7,5.595 ; -6.595,-5.595 cw(c-6.895,-5.995) -6.395,-5.995 6.395,-5.995 cw(c6.895,-5.995) 6.595,-5.595 ; 7.195,-5.595 cw(c6.895,-5.995) 7.395,-5.995 10.49,-5.995 10.49,-0.495 cw(c10.49,0.005) 10.09,-0.295 ; 7.3,5.595 ccw(c7,5.995) 7.5,5.995 10.49,5.995 10.49,0.505 ccw(c10.49,0.005) 10.09,0.305 ; -10.09,-4.395 ccw(c-8.89,-4.395) -8.89,-5.595 ; -10.09,-4.395 -10.09,4.395 ; -10.09,-4.395 -8.89,-4.395 ; -10.09,4.395 cw(c-8.89,4.395) -8.89,5.595 ; -10.09,4.395 -8.89,4.395 ; -8.89,-5.595 8.89,-5.595 ; -8.89,-5.595 -8.89,-4.395 ; -8.89,-4.395 -8.89,4.395 ; -8.89,-4.395 8.89,-4.395 ; -8.89,4.395 -8.89,5.595 ; -8.89,4.395 8.89,4.395 ; -8.89,5.595 8.89,5.595 ; 8.89,-5.595 ccw(c8.89,-4.395) 10.09,-4.395 ; 8.89,-5.595 8.89,-4.395 ; 8.89,-4.395 10.09,-4.395 ; 8.89,-4.395 8.89,4.395 ; 8.89,4.395 8.89,5.595 ; 8.89,4.395 10.09,4.395 ; 8.89,5.595 cw(c8.89,4.395) 10.09,4.395 ; 10.09,-4.395 10.09,4.395
  text ".Designator" at -6.763,-0.679 h3
3D body "HZ1198.STEP": height 5.64, standoff 0.04, extent -10.49,-5.995 10.49,5.995

## JC0603C-1 [mm] "Mini-Circuits JC0603C-1 Case Style"
height 0.6
pads (4):
  rect 0.65x0.3 smd mask+0.05: 1(-0.945,0) 2(0.945,0)
  rect 0.8x0.7 smd mask+0.05: 3(0,-0.55) 3(0,0.55)
Top Overlay:
  circle w0.3: c-1.25,0.9 r0.1
  lines w0.2: -0.4,-1.15 0.4,-1.15 ; -0.4,1.15 0.4,1.15
Top Courtyard:
  lines w0.025: -1.5,-0.35 -1,-0.35 -1,-0.6 -0.65,-0.6 -0.65,-1.15 0.65,-1.15 0.65,-0.6 1,-0.6 1,-0.35 1.5,-0.35 1.5,0.35 1,0.35 1,0.6 0.65,0.6 0.65,1.15 -0.65,1.15 -0.65,0.6 -1,0.6 -1,0.35 -1.5,0.35 -1.5,-0.35
Top Assembly:
  lines w0.05: -0.8,-0.15 -0.8,-0.35 ccw(c-0.75,-0.35) -0.75,-0.4 -0.35,-0.4 ; -0.8,0.15 -0.8,0.35 cw(c-0.75,0.35) -0.75,0.4 -0.35,0.4 ; -0.755,-0.15 -0.755,0.15 ; -0.705,-0.125 -0.705,0.125 ; -0.3,-0.4 -0.3,-0.3 ; -0.3,0.3 -0.3,0.4 ; -0.25,-0.405 -0.25,-0.25 ; -0.25,0.405 -0.25,0.25 ; -0.2,-0.405 -0.2,-0.25 ; -0.2,0.25 -0.2,0.405 ; -0.15,-0.405 -0.15,-0.25 ; -0.15,0.25 -0.15,0.405 ; -0.1,-0.405 -0.1,-0.25 ; -0.1,0.25 -0.1,0.405 ; -0.05,-0.405 -0.05,-0.25 ; -0.05,0.25 -0.05,0.405 ; 0,-0.405 0,-0.25 ; 0,0.25 0,0.405 ; 0.05,-0.405 0.05,-0.25 ; 0.05,0.25 0.05,0.405 ; 0.1,-0.405 0.1,-0.25 ; 0.1,0.25 0.1,0.405 ; 0.15,-0.405 0.15,-0.25 ; 0.15,0.25 0.15,0.405 ; 0.2,-0.405 0.2,-0.25 ; 0.2,0.25 0.2,0.405 ; 0.25,-0.405 0.25,-0.25 ; 0.25,0.405 0.25,0.25 ; 0.3,-0.4 0.3,-0.3 ; 0.3,0.3 0.3,0.4 ; 0.35,-0.4 0.75,-0.4 ccw(c0.75,-0.35) 0.8,-0.35 0.8,-0.15 ; 0.35,0.4 0.75,0.4 cw(c0.75,0.35) 0.8,0.35 0.8,0.15 ; 0.705,-0.125 0.705,0.125 ; 0.755,-0.15 0.755,0.15 ; -0.25,-0.25 ccw(c-0.25,-0.35) -0.35,-0.35 -0.35,-0.405 0.35,-0.405 0.35,-0.35 ccw(c0.25,-0.35) 0.25,-0.25 ; -0.25,-0.25 0.25,-0.25 ; -0.25,0.25 cw(c-0.25,0.35) -0.35,0.35 -0.35,0.405 0.35,0.405 0.35,0.35 cw(c0.25,0.35) 0.25,0.25 ; -0.25,0.25 0.25,0.25 ; -0.805,-0.15 -0.75,-0.15 ccw(c-0.75,-0.05) -0.65,-0.05 -0.65,0.05 ccw(c-0.75,0.05) -0.75,0.15 -0.805,0.15 -0.805,-0.15 ; -0.6,-0.2 -0.6,0.2 0.1,0.2 0.1,-0.2 -0.6,-0.2 ; 0.65,-0.05 ccw(c0.75,-0.05) 0.75,-0.15 0.805,-0.15 0.805,0.15 0.75,0.15 ccw(c0.75,0.05) 0.65,0.05 0.65,-0.05
  text ".Designator" at -2.704,1.129 h1.2
3D body "JC0603C-1.x_t": height 0.61, standoff -0.01, extent -0.805,-0.405 0.805,0.405

## JV1210C-13 [mm] "Chip FILTER"
height 1
pads (2):
  rect 0.25x0.2 smd: 1(-1.475,0) 2(1.475,0)
Top Layer:
  region: 1.475,0.1 1.64,0.1 1.64,-0.1 1.475,-0.1
  region: -1.475,0.1 -1.64,0.1 -1.64,-0.1 -1.475,-0.1
  pour cut-out: 1.6,-0.37 1.6,-0.3 1.8,-0.3 1.8,-0.37
  pour cut-out: 1.6,0.37 1.6,0.3 1.8,0.3 1.8,0.37
  pour cut-out: -1.6,-0.37 -1.6,-0.3 -1.8,-0.3 -1.8,-0.37
  pour cut-out: -1.6,0.37 -1.6,0.3 -1.8,0.3 -1.8,0.37
  region: 1.6,0 1.6,-0.17 1.8,-0.17 1.8,0
  region: 1.6,0 1.6,0.17 1.8,0.17 1.8,0
  region: -1.6,0 -1.6,-0.17 -1.8,-0.17 -1.8,0
  region: -1.6,0 -1.6,0.17 -1.8,0.17 -1.8,0
  pour cut-out: -1.6,0 -1,0 -1,0.255 -1,0.285 -1.023,0.34 -1.065,0.382 -1.12,0.405 -1.15,0.405 -1.6,0.405
  pour cut-out: -1.6,0 -1,0 -1,-0.255 -1,-0.285 -1.023,-0.34 -1.065,-0.382 -1.12,-0.405 -1.15,-0.405 -1.6,-0.405
  pour cut-out: 1.6,0 1,0 1,0.255 1,0.285 1.023,0.34 1.065,0.382 1.12,0.405 1.15,0.405 1.6,0.405
  pour cut-out: 1.6,0 1,0 1,-0.255 1,-0.285 1.023,-0.34 1.065,-0.382 1.12,-0.405 1.15,-0.405 1.6,-0.405
Top Overlay:
  circle w0.22: c-1.5,1.7 r0.1
  lines w0.2: -0.5,-1.5 0.5,-1.5 ; -0.5,1.5 0.5,1.5
Top Paste:
  rectangle: -1.55,0.55 -0.65,1.2
  region: 1.55,1.2 0.65,1.2 0.65,0.55 1.55,0.55
  rectangle: -0.45,0.55 0.45,1.2
  region: 0.9,0.35 0.1,0.35 0.1,-0.35 0.9,-0.35
  rectangle: -0.9,-0.35 -0.1,0.35
  rectangle: -1.55,-1.2 -0.65,-0.55
  region: 1.55,-0.55 0.65,-0.55 0.65,-1.2 1.55,-1.2
  rectangle: -0.45,-1.2 0.45,-0.55
  rectangle: -1.6,0.05 -1.35,0.12
  rectangle: -1.6,-0.12 -1.35,-0.05
  rectangle: -1.7,-0.12 -1.55,0.12
  region: 1.6,0.12 1.35,0.12 1.35,0.05 1.6,0.05
  region: 1.6,-0.05 1.35,-0.05 1.35,-0.12 1.6,-0.12
  region: 1.7,0.12 1.55,0.12 1.55,-0.12 1.7,-0.12
Top Solder:
  region: -1.705,1.35 -1.705,-1.35 1.705,-1.35 1.705,1.35
Top Courtyard:
  lines w0.025: -2,-1.65 2,-1.65 2,1.65 -2,1.65 -2,-1.65
Top Assembly:
  lines w0.05: -1.6,-1.25 -1.6,1.25 1.6,1.25 1.6,-1.25 -1.6,-1.25 ; -1.35,-0.25 -0.6,-0.25 -0.6,0.25 -1.35,0.25 -1.35,-0.25
  text ".Designator" at -5.228,-0.539 h1.5
3D body "JV1210C-13.x_t": height 0.77, standoff 0, extent -1.6,-1.25 1.6,1.25

## NL1008C-6 [mm] "Mini-Circuits NL1008C-6 Case Style"
height 0.705
pads (3):
  rect 0.7x0.3 smd paste-0.02 mask+0: 1(-1.165,-0.495) 2(1.165,-0.495)
  round 0.025 smd paste-5 mask-5: 3(-0.075,0.255)
Top Layer:
  region: -1.245,-1.005 1.245,-1.005 1.245,-0.795 0.6,-0.795 0.6,-0.195 1.245,-0.195 1.245,1.005 -1.245,1.005 -1.245,-0.195 -0.6,-0.195 -0.6,-0.795 -1.245,-0.795
  pour cut-out: -0.6,-0.195 -0.6,-0.795 -0.815,-0.795 -0.815,-0.195
  pour cut-out: 0.6,-0.195 0.6,-0.795 0.815,-0.795 0.815,-0.195
Top Paste:
  region: -0.55,-0.8 -1.25,-0.8 -1.25,-1.02 -0.55,-1.02
  rectangle: 0.555,-1.02 1.25,-0.8
  rectangle: -0.35,0.45 0.35,0.95
  region: -0.55,0.95 -1.25,0.95 -1.25,0.45 -0.55,0.45
  rectangle: -0.35,-0.95 0.35,-0.45
  rectangle: -0.35,-0.25 0.35,0.25
  rectangle: 0.55,-0.15 1.25,0.25
  region: 1.25,0.95 0.55,0.95 0.55,0.45 1.25,0.45
  region: -0.55,0.25 -1.25,0.25 -1.25,-0.15 -0.55,-0.15
Top Solder:
  rectangle: 0.895,-0.645 1.395,-0.345
  rectangle: -1.345,-0.245 1.345,1.105
  rectangle: -0.695,-1.105 0.695,-0.195
  rectangle: -1.345,-1.105 -0.675,-0.745
  region: 1.345,-0.745 0.675,-0.745 0.675,-1.105 1.345,-1.105
  pour cut-out: -1.775,1.255 -1.775,-1.255 1.775,-1.255 1.775,1.255
Top Courtyard:
  lines w0.025: -1.85,-1.55 1.85,-1.55 1.85,1.55 -1.85,1.55 -1.85,-1.55
Top Assembly:
  lines w0.05: -1.25,-1 1.25,-1 1.25,1 -1.25,1 -1.25,-1 ; -1,-0.25 -1,0.25 -0.3,0.25 -0.3,-0.25 -1,-0.25
  text ".Designator" at -1.752,-0.226 h1
3D body "NL1008C-6.x_t": height 0.71, standoff 0, extent -1.25,-1 1.25,1

## NL1008C-7 [mm] "Mini-Circuits NL1008C-7 Case Style"
height 0.7
pads (3):
  rect 0.7x0.3 smd paste-0.02 mask+0: 1(-1.165,-0.385) 2(1.165,-0.385)
  round 0.025 smd paste-5 mask-5: 3(0,0)
Top Layer:
  pour cut-out: 0.6,-0.085 0.6,-0.685 0.815,-0.685 0.815,-0.085
  pour cut-out: -0.6,-0.085 -0.6,-0.685 -0.815,-0.685 -0.815,-0.085
  region: -1.245,-0.995 1.245,-0.995 1.245,-0.685 0.6,-0.685 0.6,-0.085 1.245,-0.085 1.245,1.005 -1.245,1.005 -1.245,-0.085 -0.6,-0.085 -0.6,-0.685 -1.245,-0.685
Top Paste:
  rectangle: 0.545,0.505 1.245,1.005
  rectangle: 0.55,-0.085 1.245,0.315
  rectangle: -0.35,0.505 0.35,1.005
  region: -0.545,1.005 -1.245,1.005 -1.245,0.505 -0.545,0.505
  region: -0.55,0.315 -1.245,0.315 -1.245,-0.085 -0.55,-0.085
  rectangle: 0.545,-0.95 1.245,-0.73
  rectangle: -0.35,-0.205 0.35,0.315
  rectangle: -0.35,-0.95 0.35,-0.44
  region: -0.545,-0.73 -1.245,-0.73 -1.245,-0.95 -0.545,-0.95
Top Solder:
  rectangle: -0.695,-1.105 0.695,-0.085
  region: 1.345,-0.635 0.675,-0.635 0.675,-1.105 1.345,-1.105
  rectangle: -1.345,-1.105 -0.675,-0.635
  rectangle: -1.345,-0.135 1.345,1.105
  rectangle: 0.895,-0.535 1.395,-0.235
  pour cut-out: -1.775,1.255 -1.775,-1.255 1.775,-1.255 1.775,1.255
Top Courtyard:
  lines w0.025: -1.85,-1.55 -1.85,1.55 1.85,1.55 1.85,-1.55 -1.85,-1.55
Top Assembly:
  lines w0.05: -1.25,-0.98 ccw(c-1.23,-0.98) -1.23,-1 1.23,-1 ccw(c1.23,-0.98) 1.25,-0.98 1.25,0.98 ccw(c1.23,0.98) 1.23,1 -1.23,1 ccw(c-1.23,0.98) -1.25,0.98 -1.25,-0.98 ; -1.05,-0.25 -1.05,0.25 -0.05,0.25 -0.05,-0.25 -1.05,-0.25
  text ".Designator" at -1.702,-0.226 h1
3D body "NL1008C-7.x_t": height 0.71, standoff 0.01, extent -1.25,-1 1.25,1